# Altium schematic symbol library XRCGB40M000F1S1BR0.SchLib: 1 symbol
Pins are listed as number, name and electrical type; pins without a type are passive.

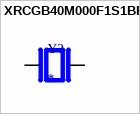
[diagram p0: symbol XRCGB40M000F1S1BR0]

## XRCGB40M000F1S1BR0
designator Y?
Crystal 40MHz Â±10ppm (Tol) Â±10ppm (Stability) 8pF 50Ohm 4-Pin CSMD T/R; MF: Murata Electronics; MP: XRCGB40M000F1S1BR0; Purchase-URL: https://pricing.snapeda.com/search/part/XRCGB40M000F1S1BR0/?ref=eda; Package: SMD-4 Murata; Check_prices: https://www.snapeda.com/parts/XRCGB40M000F1S1BR0/Murata/view-part/4980411/?ref=eda; Value: *; SnapEDA_Link: https://www.snapeda.com/parts/XRCGB40M000F1S1BR0/Murata/view-part/4980411/?ref=snap; Digi-Key_Part_Number: 490-XRCGB40M000F1S1BR0TR-ND
footprint OSC_XRCGB40M000F1S1BR0
pins: 1, 3